# Altium integrated library Infineon_Power_MOSFET.IntLib: 1448 symbols (part 31 of 47)
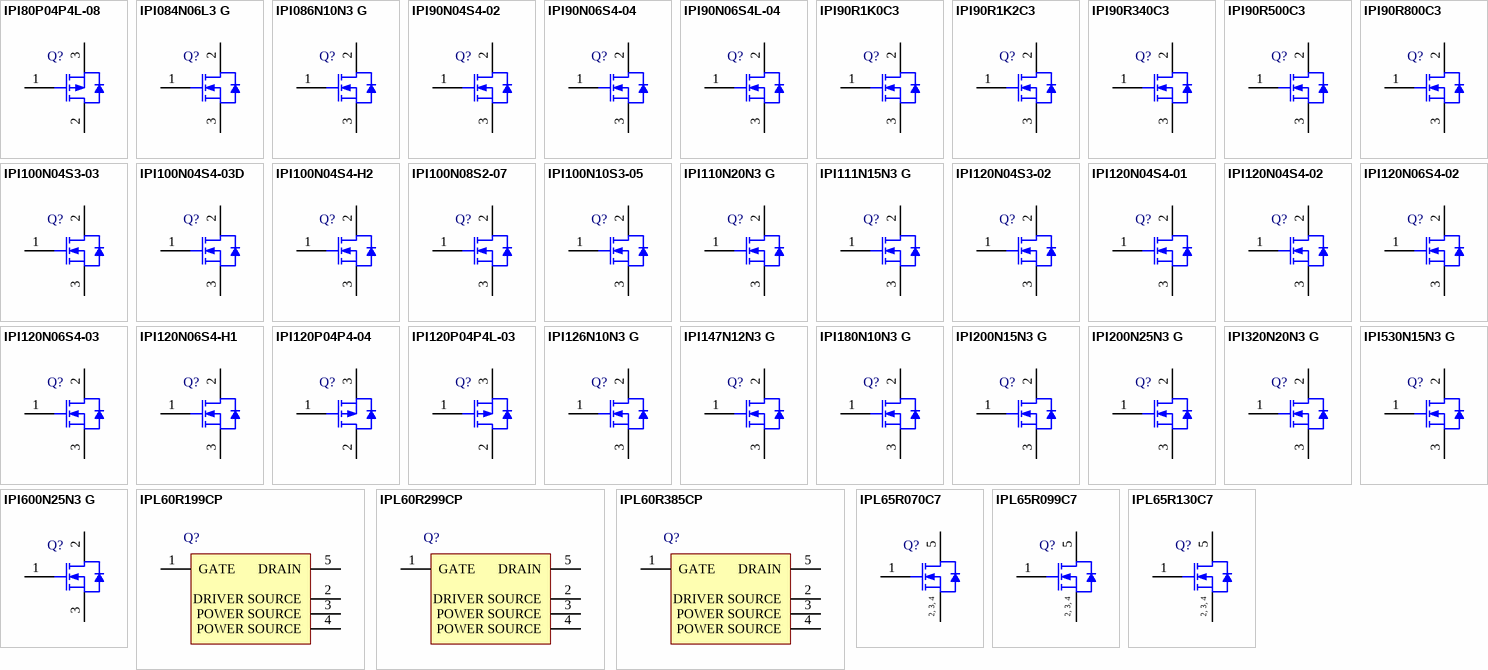
[diagram p67: symbols IPI80P04P4L-08 to IPL65R130C7]

## IPI084N06L3 G
designator Q?
N-Channel OptiMOS 3 Power-Transistor, 60 V VDS, 50 A ID, -55 to 175 degC, PG-TO262-3-1, Tube, Green; Manufacturer: Infineon; PartNumber: IPI084N06L3 G; Green: TRUE; ID (max): 50 A; IDpuls (max): 200 A; Polarity: N; Ptot (max): 79 W; QG: 22 nC; RDS (on) (max): 8.4 mOhm; RDS (on) (max) (@4.5V): 14.3 mOhm; Rth: 1.9 K/W; RthJA (max): 62 K/W; VDS (max): 60 V; VGS(th) (max): 2.2 V; VGS(th) (min): 1.2 V; DatasheetVersion: Rev. 2.24; PackageVersion: Rev. 03, 05/2006; PackageReference: PG-TO262-3-1; PackageDescription: 3-Pin Plastic (Green) Transistor Single Outline Package, 10.03 x 8.98 mm Body, 2.54 mm Pitch; Halogen-free: TRUE; Packing: Tube; RthJC (max): 1.9 K/W; Mounting Technology: Through Hole; ComponentLink1Description: Manufacturer URL; ComponentLink1URL: http://www.infineon.com/; ComponentLink2Description: Datasheet; ComponentLink2URL: http://www.infineon.com/dgdl/IPP_B_I_084N06L3_Rev2.24.pdf?folderId=db3a304313b8b5a60113cee8763b02d7&fileId=db3a30433ba77ced013bade4048934ce; ComponentLink3Description: Package Specification; ComponentLink3URL: http://www.infineon.com/dgdl/DS_IPX65R420CFD_2_4.pdf?folderId=db3a3043156fd5730115c736bcc70ff2&fileId=db3a30432f91014f012f9c293f1a7399
footprint INF-PG-TO262-3-1_A (FM, 3-Leads, Body 10.03x4.436mm, Pitch 2.54mm)
pins: 1 GATE, 2 DRAIN, 3 SOURCE

## IPI086N10N3 G
designator Q?
N-Channel OptiMOS 3 Power-Transistor, 100 V VDS, 80 A ID, -55 to 175 degC, PG-TO262-3-1, Tube, Green; Manufacturer: Infineon; PartNumber: IPI086N10N3 G; Green: TRUE; ID (max): 80 A; IDpuls (max): 320 A; Polarity: N; Ptot (max): 125 W; QG: 42 nC; RDS (on) (max): 8.6 mOhm; Rth: 1.2 K/W; RthJA (max): 62 K/W; VDS (max): 100 V; VGS(th) (max): 3.5 V; VGS(th) (min): 2 V; DatasheetVersion: Rev. 2.5; PackageVersion: Rev. 03, 05/2006; PackageReference: PG-TO262-3-1; PackageDescription: 3-Pin Plastic (Green) Transistor Single Outline Package, 10.03 x 8.98 mm Body, 2.54 mm Pitch; Supplier 1: Mouser; Supplier Part Number 1: 726-IPI086N10N3G; Supplier 2: Digi-Key; Supplier Part Number 2: IPI086N10N3 G-ND; Halogen-free: TRUE; Packing: Tube; RthJC (max): 1.2 K/W; Mounting Technology: Through Hole; ComponentLink1Description: Manufacturer URL; ComponentLink1URL: http://www.infineon.com/; ComponentLink2Description: Datasheet; ComponentLink2URL: http://www.infineon.com/dgdl/IPP086N10N3+G_Rev2.5.pdf?folderId=db3a304313b8b5a60113cee8763b02d7&fileId=db3a30431ce5fb52011d1ac5c8fa1358; ComponentLink3Description: Package Specification; ComponentLink3URL: http://www.infineon.com/dgdl/DS_IPX65R420CFD_2_4.pdf?folderId=db3a3043156fd5730115c736bcc70ff2&fileId=db3a30432f91014f012f9c293f1a7399
footprint INF-PG-TO262-3-1_A (FM, 3-Leads, Body 10.03x4.436mm, Pitch 2.54mm)
pins: 1 GATE, 2 DRAIN, 3 SOURCE

## IPI90N04S4-02
designator Q?
OptiMOS-T2 Power-Transistor, 40 V VDS, 90 A ID, PG-TO262-3-1, Tube, Green; Manufacturer: Infineon; PartNumber: IPI90N04S4-02; Green: TRUE; ID (max): 90 A; IDpuls (max): 360 A; Ptot (max): 150 W; QG: 91 nC; RDS (on) (max) (@10V): 2.5 mOhm; RthJC (max): 1 K/W; VDS (max): 40 V; VGS(th) (max): 4 V; VGS(th) (min): 2 V; DatasheetVersion: Rev. 1.1; PackageReference: PG-TO262-3-1; PackageDescription: 3-Pin Plastic (Green) Transistor Single Outline Package, 10 x 9.25 mm Body, 2.54 mm Pitch; Supplier 1: Mouser; Supplier Part Number 1: 726-IPI90N04S4-02; Supplier 2: Digi-Key; Supplier Part Number 2: IPI90N04S4-02-ND; Halogen-free: TRUE; Packing: Tube; Technology: OptiMOS-T2; Mounting Technology: Through Hole; ComponentLink1Description: Manufacturer URL; ComponentLink1URL: http://www.infineon.com/; ComponentLink2Description: Datasheet; ComponentLink2URL: http://www.infineon.com/dgdl/IPP-B-I90N04S4-02-1_1.pdf?folderId=db3a304412b407950112b42b75b74520&fileId=db3a304328c6bd5c01291c7efe515e2f&location=en.Products.Automotive_ICs.Automotive_MOSFETs.Single__N-Channel_40V_MOSFETs.DATASHEET.IPP-B-I90N04S4-02-1_1.pdf; ComponentLink3Description: Package Specification; ComponentLink3URL: http://www.infineon.com/cms/packages/Leaded_and_through-hole/P-PG-TO262/P-PG-TO262-3-1.html?__locale=en
footprint INF-PG-TO262-3-1 (FM, 3-Leads, Body 10x4.4mm, Pitch 2.54mm)
pins: 1 GATE, 2 DRAIN, 3 SOURCE

## IPI90N06S4-04
designator Q?
OptiMOS-T2 Power-Transistor, 60 V VDS, 90 A ID, PG-TO262-3-1, Tube, Green; Manufacturer: Infineon; PartNumber: IPI90N06S4-04; Green: TRUE; ID (max): 90 A; IDpuls (max): 360 A; Ptot (max): 150 W; QG: 99 nC; RDS (on) (max) (@10V): 4 mOhm; RthJC (max): 1 K/W; VDS (max): 60 V; VGS(th) (max): 4 V; VGS(th) (min): 2 V; DatasheetVersion: Rev. 1.2; PackageReference: PG-TO262-3-1; PackageDescription: 3-Pin Plastic (Green) Transistor Single Outline Package, 10 x 9.25 mm Body, 2.54 mm Pitch; Supplier 1: Mouser; Supplier Part Number 1: 726-IPI90N06S4-04; Supplier 2: Digi-Key; Supplier Part Number 2: IPI90N06S4-04-ND; Halogen-free: TRUE; Packing: Tube; Technology: OptiMOS-T2; Mounting Technology: Through Hole; ComponentLink1Description: Manufacturer URL; ComponentLink1URL: http://www.infineon.com/; ComponentLink2Description: Datasheet; ComponentLink2URL: http://www.infineon.com/dgdl/IPP_B_I90N06S4-04_DS_12.pdf?folderId=db3a30431a5c32f2011a8084a04a6500&fileId=db3a30431ff98815012038cce6020cda&location=en.Products.Automotive_ICs.Automotive_MOSFETs.Single__N-Channel_60V_MOSFETs.DATASHEET.IPP_B_I90N06S4-04_DS_12.pdf; ComponentLink3Description: Package Specification; ComponentLink3URL: http://www.infineon.com/cms/packages/Leaded_and_through-hole/P-PG-TO262/P-PG-TO262-3-1.html?__locale=en
footprint INF-PG-TO262-3-1 (FM, 3-Leads, Body 10x4.4mm, Pitch 2.54mm)
pins: 1 GATE, 2 DRAIN, 3 SOURCE

## IPI90N06S4L-04
designator Q?
OptiMOS-T2 Power-Transistor, 60 V VDS, 90 A ID, PG-TO262-3-1, Tube, Green; Manufacturer: Infineon; PartNumber: IPI90N06S4L-04; Green: TRUE; ID (max): 90 A; IDpuls (max): 360 A; Ptot (max): 150 W; QG: 133 nC; RDS (on) (max) (@10V): 3.7 mOhm; RDS (on) (max) (@4.5V): 5.9 mOhm; RthJC (max): 1 K/W; VDS (max): 60 V; VGS(th) (max): 2.2 V; VGS(th) (min): 1.2 V; DatasheetVersion: Rev. 1.0; PackageReference: PG-TO262-3-1; PackageDescription: 3-Pin Plastic (Green) Transistor Single Outline Package, 10 x 9.25 mm Body, 2.54 mm Pitch; Supplier 1: Mouser; Supplier Part Number 1: 726-IPI90N06S4L-04; Supplier 2: Digi-Key; Supplier Part Number 2: IPI90N06S4L-04-ND; Halogen-free: TRUE; Packing: Tube; Technology: OptiMOS-T2; Mounting Technology: Through Hole; ComponentLink1Description: Manufacturer URL; ComponentLink1URL: http://www.infineon.com/; ComponentLink2Description: Datasheet; ComponentLink2URL: http://www.infineon.com/dgdl/IPP_B_I90N06S4L-04_DS_10.pdf?folderId=db3a30431a5c32f2011a8084a04a6500&fileId=db3a30431ff98815012038d111570ce3&location=en.Products.Automotive_ICs.Automotive_MOSFETs.Single__N-Channel_60V_MOSFETs.DATASHEET.IPP_B_I90N06S4L-04_DS_10.pdf; ComponentLink3Description: Package Specification; ComponentLink3URL: http://www.infineon.com/cms/packages/Leaded_and_through-hole/P-PG-TO262/P-PG-TO262-3-1.html?__locale=en
footprint INF-PG-TO262-3-1 (FM, 3-Leads, Body 10x4.4mm, Pitch 2.54mm)
pins: 1 GATE, 2 DRAIN, 3 SOURCE

## IPI90R1K0C3
designator Q?
N-Channel CoolMOS Power-Transistor, 900 V VDS, 5.7 A ID, -55 to 150 degC, PG-TO262-3-1, Tube, Green; Manufacturer: Infineon; PartNumber: IPI90R1K0C3; Green: TRUE; ID (max): 5.7 A; IDpuls (max): 12 A; Polarity: N; Ptot (max): 89 W; QG: 34 nC; RDS (on) (max): 1,000 mOhm; Rth: 1.4 K/W; RthJA (max): 62 K/W; VDS (max): 900 V; VGS(th) (max): 3.5 V; VGS(th) (min): 2.5 V; DatasheetVersion: Rev. 1.0; PackageReference: PG-TO262-3-1; PackageDescription: 3-Pin Plastic (Green) Transistor Single Outline Package, 10 x 9.25 mm Body, 2.54 mm Pitch; Supplier 1: Mouser; Supplier Part Number 1: 726-IPI90R1K0C3; Supplier 2: Digi-Key; Supplier Part Number 2: IPI90R1K0C3-ND; Halogen-free: TRUE; Packing: Tube; RthJC (max): 1.4 K/W; Technology: CoolMOS C3; Mounting Technology: Through Hole; ComponentLink1Description: Manufacturer URL; ComponentLink1URL: http://www.infineon.com/; ComponentLink2Description: Datasheet; ComponentLink2URL: http://www.infineon.com/dgdl/IPI90R1K0C3_1%5B1%5D.0.pdf?folderId=db3a30432313ff5e0123a8557b1c5ba2&fileId=db3a30432313ff5e0123a85607fe5ba3; ComponentLink3Description: Package Specification; ComponentLink3URL: http://www.infineon.com/cms/packages/Leaded_and_through-hole/P-PG-TO262/P-PG-TO262-3-1.html?__locale=en
footprint INF-PG-TO262-3-1 (FM, 3-Leads, Body 10x4.4mm, Pitch 2.54mm)
pins: 1 GATE, 2 DRAIN, 3 SOURCE

## IPI90R1K2C3
designator Q?
N-Channel CoolMOS Power-Transistor, 900 V VDS, 5.1 A ID, -55 to 150 degC, PG-TO262-3-1, Tube, Green; Manufacturer: Infineon; PartNumber: IPI90R1K2C3; Green: TRUE; ID (max): 5.1 A; IDpuls (max): 10 A; Ptot (max): 83 W; QG: 28 nC; RDS (on) (max): 1,200 mOhm; Rth: 1.5 K/W; RthJA (max): 62 K/W; VDS (max): 900 V; VGS(th) (max): 3.5 V; VGS(th) (min): 2.5 V; DatasheetVersion: Rev. 1.0; PackageReference: PG-TO262-3-1; PackageDescription: 3-Pin Plastic (Green) Transistor Single Outline Package, 10 x 9.25 mm Body, 2.54 mm Pitch; Supplier 1: Mouser; Supplier Part Number 1: 726-IPI90R1K2C3; Supplier 2: Digi-Key; Supplier Part Number 2: IPI90R1K2C3-ND; Halogen-free: TRUE; Packing: Tube; RthJC (max): 1.5 K/W; Technology: CoolMOS C3; Mounting Technology: Through Hole; ComponentLink1Description: Manufacturer URL; ComponentLink1URL: http://www.infineon.com/; ComponentLink2Description: Datasheet; ComponentLink2URL: http://www.infineon.com/dgdl/IPI90R1K2C3_1%5B1%5D.0.pdf?folderId=db3a30432313ff5e0123a8557b1c5ba2&fileId=db3a30432313ff5e0123a85db6ae5bb3; ComponentLink3Description: Package Specification; ComponentLink3URL: http://www.infineon.com/cms/packages/Leaded_and_through-hole/P-PG-TO262/P-PG-TO262-3-1.html?__locale=en
footprint INF-PG-TO262-3-1 (FM, 3-Leads, Body 10x4.4mm, Pitch 2.54mm)
pins: 1 GATE, 2 DRAIN, 3 SOURCE

## IPI90R340C3
designator Q?
N-Channel CoolMOS Power-Transistor, 900 V VDS, 15 A ID, -55 to 150 degC, PG-TO262-3-1, Tube, Green; Manufacturer: Infineon; PartNumber: IPI90R340C3; Green: TRUE; ID (max): 15 A; IDpuls (max): 34 A; Polarity: N; Ptot (max): 208 W; QG: 94 nC; RDS (on) (max): 340 mOhm; Rth: 0.6 K/W; RthJA (max): 62 K/W; VDS (max): 900 V; VGS(th) (max): 3.5 V; VGS(th) (min): 2.5 V; DatasheetVersion: Rev. 1.1; PackageReference: PG-TO262-3-1; PackageDescription: 3-Pin Plastic (Green) Transistor Single Outline Package, 10 x 9.25 mm Body, 2.54 mm Pitch; Supplier 1: Mouser; Supplier Part Number 1: 726-IPI90R340C3; Supplier 2: Farnell; Supplier Part Number 2: 1664047; Supplier 3: Digi-Key; Supplier Part Number 3: IPI90R340C3-ND; Halogen-free: TRUE; Packing: Tube; RthJC (max): 0.6 K/W; Technology: CoolMOS C3; Mounting Technology: Through Hole; ComponentLink1Description: Manufacturer URL; ComponentLink1URL: http://www.infineon.com/; ComponentLink2Description: Datasheet; ComponentLink2URL: http://www.infineon.com/dgdl/IPI90R340C3_1.1.pdf?folderId=db3a30432313ff5e0123a8557b1c5ba2&fileId=db3a30432313ff5e0123a87d86565bc3; ComponentLink3Description: Package Specification; ComponentLink3URL: http://www.infineon.com/cms/packages/Leaded_and_through-hole/P-PG-TO262/P-PG-TO262-3-1.html?__locale=en
footprint INF-PG-TO262-3-1 (FM, 3-Leads, Body 10x4.4mm, Pitch 2.54mm)
pins: 1 GATE, 2 DRAIN, 3 SOURCE

## IPI90R500C3
designator Q?
N-Channel CoolMOS Power-Transistor, 900 V VDS, 11 A ID, -55 to 150 degC, PG-TO262-3-1, Tube, Green; Manufacturer: Infineon; PartNumber: IPI90R500C3; Green: TRUE; ID (max): 11 A; IDpuls (max): 24 A; Polarity: N; Ptot (max): 156 W; QG: 68 nC; RDS (on) (max): 500 mOhm; Rth: 0.8 K/W; RthJA (max): 62 K/W; VDS (max): 900 V; VGS(th) (max): 3.5 V; VGS(th) (min): 2.5 V; DatasheetVersion: Rev. 1.0; PackageReference: PG-TO262-3-1; PackageDescription: 3-Pin Plastic (Green) Transistor Single Outline Package, 10 x 9.25 mm Body, 2.54 mm Pitch; Supplier 1: Mouser; Supplier Part Number 1: 726-IPI90R500C3; Supplier 2: Farnell; Supplier Part Number 2: 1664048; Supplier 3: Digi-Key; Supplier Part Number 3: IPI90R500C3-ND; Halogen-free: TRUE; Packing: Tube; RthJC (max): 0.8 K/W; Technology: CoolMOS C3; Mounting Technology: Through Hole; ComponentLink1Description: Manufacturer URL; ComponentLink1URL: http://www.infineon.com/; ComponentLink2Description: Datasheet; ComponentLink2URL: http://www.infineon.com/dgdl/IPI90R500C3_1%5B1%5D.0.pdf?folderId=db3a30432313ff5e0123a8557b1c5ba2&fileId=db3a30432313ff5e0123a88242955bd3; ComponentLink3Description: Package Specification; ComponentLink3URL: http://www.infineon.com/cms/packages/Leaded_and_through-hole/P-PG-TO262/P-PG-TO262-3-1.html?__locale=en
footprint INF-PG-TO262-3-1 (FM, 3-Leads, Body 10x4.4mm, Pitch 2.54mm)
pins: 1 GATE, 2 DRAIN, 3 SOURCE

## IPI90R800C3
designator Q?
N-Channel CoolMOS Power-Transistor, 900 V VDS, 6.9 A ID, -55 to 150 degC, PG-TO262-3-1, Tube, Green; Manufacturer: Infineon; PartNumber: IPI90R800C3; Green: TRUE; ID (max): 6.9 A; IDpuls (max): 15 A; Polarity: N; Ptot (max): 104 W; QG: 42 nC; RDS (on) (max): 800 mOhm; Rth: 1.2 K/W; RthJA (max): 62 K/W; VDS (max): 900 V; VGS(th) (max): 3.5 V; VGS(th) (min): 2.5 V; DatasheetVersion: Rev. 1.0; PackageReference: PG-TO262-3-1; PackageDescription: 3-Pin Plastic (Green) Transistor Single Outline Package, 10 x 9.25 mm Body, 2.54 mm Pitch; Supplier 1: Mouser; Supplier Part Number 1: 726-IPI90R800C3; Supplier 2: Digi-Key; Supplier Part Number 2: IPI90R800C3-ND; Halogen-free: TRUE; Packing: Tube; RthJC (max): 1.2 K/W; Technology: CoolMOS C3; Mounting Technology: Through Hole; ComponentLink1Description: Manufacturer URL; ComponentLink1URL: http://www.infineon.com/; ComponentLink2Description: Datasheet; ComponentLink2URL: http://www.infineon.com/dgdl/IPI90R800C3_1%5B1%5D.0.pdf?folderId=db3a30432313ff5e0123a8557b1c5ba2&fileId=db3a30432313ff5e0123a887f69e5be4; ComponentLink3Description: Package Specification; ComponentLink3URL: http://www.infineon.com/cms/packages/Leaded_and_through-hole/P-PG-TO262/P-PG-TO262-3-1.html?__locale=en
footprint INF-PG-TO262-3-1 (FM, 3-Leads, Body 10x4.4mm, Pitch 2.54mm)
pins: 1 GATE, 2 DRAIN, 3 SOURCE

## IPI100N04S3-03
designator Q?
OptiMOS-T Power-Transistor, 40 V VDS, 100 A ID, PG-TO262-3-1, Tube, Green; Manufacturer: Infineon; PartNumber: IPI100N04S3-03; Green: TRUE; ID (max): 100 A; IDpuls (max): 400 A; Ptot (max): 214 W; QG: 110 nC; RDS (on) (max) (@10V): 2.8 mOhm; RthJC (max): 0.7 K/W; VDS (max): 40 V; VGS(th) (max): 4 V; VGS(th) (min): 2.1 V; DatasheetVersion: Rev. 1.0; PackageReference: PG-TO262-3-1; PackageDescription: 3-Pin Plastic (Green) Transistor Single Outline Package, 10 x 9.25 mm Body, 2.54 mm Pitch; Supplier 1: Mouser; Supplier Part Number 1: 726-IPI100N04S3-03; Supplier 2: Digi-Key; Supplier Part Number 2: IPI100N04S3-03-ND; Halogen-free: TRUE; Packing: Tube; Technology: OptiMOS-T; Mounting Technology: Through Hole; ComponentLink1Description: Manufacturer URL; ComponentLink1URL: http://www.infineon.com/; ComponentLink2Description: Datasheet; ComponentLink2URL: http://www.infineon.com/dgdl/IPP_B_I100N04S3-03_DS_1_0.pdf?folderId=db3a304412b407950112b42b75b74520&fileId=db3a304412b407950112b42ba0e8457f&location=en.Products.Automotive_ICs.Automotive_MOSFETs.Single__N-Channel_40V_MOSFETs.DATASHEET.IPP_B_I100N04S3-03_DS_1_0.pdf; ComponentLink3Description: Package Specification; ComponentLink3URL: http://www.infineon.com/cms/packages/Leaded_and_through-hole/P-PG-TO262/P-PG-TO262-3-1.html?__locale=en
footprint INF-PG-TO262-3-1 (FM, 3-Leads, Body 10x4.4mm, Pitch 2.54mm)
pins: 1 GATE, 2 DRAIN, 3 SOURCE

## IPI100N04S4-03D
designator Q?
OptiMOS-T2 Power-Transistor, 40 V VDS, 100 A ID, PG-TO262-3-1, Tube, Green; Manufacturer: Infineon; PartNumber: IPI100N04S4-03D; Green: TRUE; ID (max): 100 A; IDpuls (max): 400 A; Ptot (max): 231 mW; QG: 69 nC; RDS (on) (max) (@10V): 2.5 mOhm; RthJC (max): 0.65 K/W; VDS (max): 40 V; VGS(th) (max): 4 V; VGS(th) (min): 2 V; DatasheetVersion: Rev. 1.0; PackageReference: PG-TO262-3-1; PackageDescription: 3-Pin Plastic (Green) Transistor Single Outline Package, 10 x 9.25 mm Body, 2.54 mm Pitch; Halogen-free: TRUE; Packing: Tube; Technology: OptiMOS-T2; Mounting Technology: Through Hole; ComponentLink1Description: Manufacturer URL; ComponentLink1URL: http://www.infineon.com/; ComponentLink2Description: Datasheet; ComponentLink2URL: http://www.infineon.com/dgdl/IPP_B_I100N04S4-03D_DS_1_0.pdf?folderId=db3a304412b407950112b42b75b74520&fileId=db3a304333227b5e0133266164b72ef7&location=en.Products.Automotive_ICs.Automotive_MOSFETs.Single__N-Channel_40V_MOSFETs.DATASHEET.IPP_B_I100N04S4-03D_DS_1_0.pdf; ComponentLink3Description: Package Specification; ComponentLink3URL: http://www.infineon.com/cms/packages/Leaded_and_through-hole/P-PG-TO262/P-PG-TO262-3-1.html?__locale=en
footprint INF-PG-TO262-3-1 (FM, 3-Leads, Body 10x4.4mm, Pitch 2.54mm)
pins: 1 GATE, 2 DRAIN, 3 SOURCE

## IPI100N04S4-H2
designator Q?
OptiMOS-T2 Power-Transistor, 40 V VDS, 100 A ID, PG-TO262-3-1, Tube, Green; Manufacturer: Infineon; PartNumber: IPI100N04S4-H2; Green: TRUE; ID (max): 100 A; IDpuls (max): 400 A; Ptot (max): 115 W; QG: 70 nC; RDS (on) (max) (@10V): 2.7 mOhm; RthJC (max): 1.3 K/W; VDS (max): 40 V; VGS(th) (max): 4 V; VGS(th) (min): 2 V; DatasheetVersion: Rev. 1.0; PackageReference: PG-TO262-3-1; PackageDescription: 3-Pin Plastic (Green) Transistor Single Outline Package, 10 x 9.25 mm Body, 2.54 mm Pitch; Supplier 1: Mouser; Supplier Part Number 1: 726-IPI100N04S4-H2; Supplier 2: Digi-Key; Supplier Part Number 2: IPI100N04S4-H2-ND; Halogen-free: TRUE; Packing: Tube; Technology: OptiMOS-T2; Mounting Technology: Through Hole; ComponentLink1Description: Manufacturer URL; ComponentLink1URL: http://www.infineon.com/; ComponentLink2Description: Datasheet; ComponentLink2URL: http://www.infineon.com/dgdl/IPP_B_I100N04S4-H2_DS_10.pdf?folderId=db3a304412b407950112b42b75b74520&fileId=db3a304328c6bd5c01291c2758925d17&location=en.Products.Automotive_ICs.Automotive_MOSFETs.Single__N-Channel_40V_MOSFETs.DATASHEET.IPP_B_I100N04S4-H2_DS_10.pdf; ComponentLink3Description: Package Specification; ComponentLink3URL: http://www.infineon.com/cms/packages/Leaded_and_through-hole/P-PG-TO262/P-PG-TO262-3-1.html?__locale=en
footprint INF-PG-TO262-3-1 (FM, 3-Leads, Body 10x4.4mm, Pitch 2.54mm)
pins: 1 GATE, 2 DRAIN, 3 SOURCE

## IPI100N08S2-07
designator Q?
OptiMOS Power-Transistor, 75 V VDS, 100 A ID, PG-TO262-3-1, Tube, Green; Manufacturer: Infineon; PartNumber: IPI100N08S2-07; Green: TRUE; ID (max): 100 A; IDpuls (max): 400 A; Ptot (max): 300 W; QG: 144 nC; RDS (on) (max) (@10V): 7.1 mOhm; RthJC (max): 0.5 K/W; VDS (max): 75 V; VGS(th) (max): 4 V; VGS(th) (min): 2.1 V; DatasheetVersion: Rev. 1.0; PackageReference: PG-TO262-3-1; PackageDescription: 3-Pin Plastic (Green) Transistor Single Outline Package, 10 x 9.25 mm Body, 2.54 mm Pitch; Supplier 1: Mouser; Supplier Part Number 1: 726-IPI100N08S207; Supplier 2: Digi-Key; Supplier Part Number 2: IPI100N08S2-07-ND; Halogen-free: TRUE; Packing: Tube; Technology: OptiMOS; Mounting Technology: Through Hole; ComponentLink1Description: Manufacturer URL; ComponentLink1URL: http://www.infineon.com/; ComponentLink2Description: Datasheet; ComponentLink2URL: http://www.infineon.com/dgdl/IPP_B_I100N08S2-07_green.pdf?folderId=db3a304412b407950112b408e8c90004&fileId=db3a304412b407950112b426e4463ae7&location=en.Products.Automotive_ICs.Automotive_MOSFETs.Single__N-Channel_75V_MOSFETs.DATASHEET.IPP_B_I100N08S2-07_green.pdf; ComponentLink3Description: Package Specification; ComponentLink3URL: http://www.infineon.com/cms/packages/Leaded_and_through-hole/P-PG-TO262/P-PG-TO262-3-1.html?__locale=en
footprint INF-PG-TO262-3-1 (FM, 3-Leads, Body 10x4.4mm, Pitch 2.54mm)
pins: 1 GATE, 2 DRAIN, 3 SOURCE

## IPI100N10S3-05
designator Q?
OptiMOS-T Power-Transistor, 100 V VDS, 100 A ID, PG-TO262-3-1, Tube, Green; Manufacturer: Infineon; PartNumber: IPI100N10S3-05; Green: TRUE; ID (max): 100 A; IDpuls (max): 400 A; Ptot (max): 300 W; QG: 135 nC; RDS (on) (max) (@10V): 5.1 mOhm; RthJC (max): 0.5 K/W; VDS (max): 100 V; VGS(th) (max): 4 V; VGS(th) (min): 2 V; DatasheetVersion: Rev. 1.0; PackageReference: PG-TO262-3-1; PackageDescription: 3-Pin Plastic (Green) Transistor Single Outline Package, 10 x 9.25 mm Body, 2.54 mm Pitch; Supplier 1: Mouser; Supplier Part Number 1: 726-IPI100N10S305; Supplier 2: Digi-Key; Supplier Part Number 2: IPI100N10S3-05-ND; Halogen-free: TRUE; Packing: Tube; Technology: OptiMOS-T; Mounting Technology: Through Hole; ComponentLink1Description: Manufacturer URL; ComponentLink1URL: http://www.infineon.com/; ComponentLink2Description: Datasheet; ComponentLink2URL: http://www.infineon.com/dgdl/IPP_B_I100N10S3-05_neu.pdf?folderId=db3a3043156fd5730115c7d50620107c&fileId=db3a30431a5c32f2011a908bd4d8595c&location=en.Products.Automotive_ICs.Automotive_MOSFETs.Single__N-Channel_100V_MOSFETs.DATASHEET.IPP_B_I100N10S3-05_neu.pdf; ComponentLink3Description: Package Specification; ComponentLink3URL: http://www.infineon.com/cms/packages/Leaded_and_through-hole/P-PG-TO262/P-PG-TO262-3-1.html?__locale=en
footprint INF-PG-TO262-3-1 (FM, 3-Leads, Body 10x4.4mm, Pitch 2.54mm)
pins: 1 GATE, 2 DRAIN, 3 SOURCE

## IPI110N20N3 G
designator Q?
N-Channel OptiMOS 3 Power-Transistor, 200 V VDS, 88 A ID, -55 to 175 degC, PG-TO262-3-1, Tube, Green; Manufacturer: Infineon; PartNumber: IPI110N20N3 G; Green: TRUE; ID (max): 88 A; IDpuls (max): 352 A; Polarity: N; Ptot (max): 300 W; QG: 65 nC; RDS (on) (max): 11 mOhm; Rth: 0.5 K/W; RthJA (max): 62 K/W; VDS (max): 200 V; VGS(th) (max): 4 V; VGS(th) (min): 2 V; DatasheetVersion: Rev. 2.3; PackageVersion: Rev. 03, 05/2006; PackageReference: PG-TO262-3-1; PackageDescription: 3-Pin Plastic (Green) Transistor Single Outline Package, 10.03 x 8.98 mm Body, 2.54 mm Pitch; Supplier 1: Mouser; Supplier Part Number 1: 726-IPI110N20N3G; Supplier 2: Digi-Key; Supplier Part Number 2: IPI110N20N3 G-ND; Halogen-free: TRUE; Packing: Tube; RthJC (max): 0.5 K/W; Mounting Technology: Through Hole; ComponentLink1Description: Manufacturer URL; ComponentLink1URL: http://www.infineon.com/; ComponentLink2Description: Datasheet; ComponentLink2URL: http://www.infineon.com/dgdl/IPP_I_110N20N3+G_IPB107N20N3+G+Rev2.3.pdf?folderId=db3a3043163797a6011637d4bae7003b&fileId=db3a3043243b5f170124968e7d1f18e7; ComponentLink3Description: Package Specification; ComponentLink3URL: http://www.infineon.com/dgdl/DS_IPX65R420CFD_2_4.pdf?folderId=db3a3043156fd5730115c736bcc70ff2&fileId=db3a30432f91014f012f9c293f1a7399
footprint INF-PG-TO262-3-1_A (FM, 3-Leads, Body 10.03x4.436mm, Pitch 2.54mm)
pins: 1 GATE, 2 DRAIN, 3 SOURCE

## IPI111N15N3 G
designator Q?
N-Channel OptiMOS 3 Power-Transistor, 150 V VDS, 83 A ID, -55 to 175 degC, PG-TO262-3-1, Tube, Green; Manufacturer: Infineon; PartNumber: IPI111N15N3 G; Green: TRUE; ID (max): 83 A; IDpuls (max): 332 A; Polarity: N; Ptot (max): 214 W; QG: 41 nC; RDS (on) (max): 11.1 mOhm; Rth: 0.7 K/W; RthJA (max): 62 K/W; VDS (max): 150 V; VGS(th) (max): 4 V; VGS(th) (min): 2 V; DatasheetVersion: Rev. 2.1; PackageVersion: Rev. 03, 05/2006; PackageReference: PG-TO262-3-1; PackageDescription: 3-Pin Plastic (Green) Transistor Single Outline Package, 10.03 x 8.98 mm Body, 2.54 mm Pitch; Supplier 1: Digi-Key; Supplier Part Number 1: IPI111N15N3 G-ND; Halogen-free: TRUE; Packing: Tube; RthJC (max): 0.7 K/W; Mounting Technology: Through Hole; ComponentLink1Description: Manufacturer URL; ComponentLink1URL: http://www.infineon.com/; ComponentLink2Description: Datasheet; ComponentLink2URL: http://www.infineon.com/dgdl/IPP_I111N15N3+G_IPB108N15N3+G_Rev2.1.pdf?folderId=db3a304325305e6d01254a567c041b4e&fileId=db3a304325305e6d01254a5795541b4f; ComponentLink3Description: Package Specification; ComponentLink3URL: http://www.infineon.com/dgdl/DS_IPX65R420CFD_2_4.pdf?folderId=db3a3043156fd5730115c736bcc70ff2&fileId=db3a30432f91014f012f9c293f1a7399
footprint INF-PG-TO262-3-1_A (FM, 3-Leads, Body 10.03x4.436mm, Pitch 2.54mm)
pins: 1 GATE, 2 DRAIN, 3 SOURCE

## IPI120N04S3-02
designator Q?
OptiMOS-T Power-Transistor, 40 V VDS, 120 A ID, PG-TO262-3-1, Tube, Green; Manufacturer: Infineon; PartNumber: IPI120N04S3-02; Green: TRUE; ID (max): 120 A; IDpuls (max): 480 A; Ptot (max): 300 W; QG: 160 nC; RDS (on) (max) (@10V): 2.3 mOhm; RthJC (max): 0.5 K/W; VDS (max): 40 V; VGS(th) (max): 4 V; VGS(th) (min): 2.1 V; DatasheetVersion: Rev. 1.0; PackageReference: PG-TO262-3-1; PackageDescription: 3-Pin Plastic (Green) Transistor Single Outline Package, 10 x 9.25 mm Body, 2.54 mm Pitch; Supplier 1: Mouser; Supplier Part Number 1: 726-IPI120N04S3-02; Supplier 2: Digi-Key; Supplier Part Number 2: IPI120N04S3-02-ND; Halogen-free: TRUE; Packing: Tube; Technology: OptiMOS-T; Mounting Technology: Through Hole; ComponentLink1Description: Manufacturer URL; ComponentLink1URL: http://www.infineon.com/; ComponentLink2Description: Datasheet; ComponentLink2URL: http://www.infineon.com/dgdl/IPP_B_I120N04S3-02_DS_1_0.pdf?folderId=db3a304412b407950112b42b75b74520&fileId=db3a304412b407950112b42ba1cd4583&location=en.Products.Automotive_ICs.Automotive_MOSFETs.Single__N-Channel_40V_MOSFETs.DATASHEET.IPP_B_I120N04S3-02_DS_1_0.pdf; ComponentLink3Description: Package Specification; ComponentLink3URL: http://www.infineon.com/cms/packages/Leaded_and_through-hole/P-PG-TO262/P-PG-TO262-3-1.html?__locale=en
footprint INF-PG-TO262-3-1 (FM, 3-Leads, Body 10x4.4mm, Pitch 2.54mm)
pins: 1 GATE, 2 DRAIN, 3 SOURCE

## IPI120N04S4-01
designator Q?
OptiMOS-T2 Power-Transistor, 40 V VDS, 120 A ID, PG-TO262-3-1, Tube, Green; Manufacturer: Infineon; PartNumber: IPI120N04S4-01; Green: TRUE; ID (max): 120 A; IDpuls (max): 480 A; Ptot (max): 188 W; QG: 135 nC; RDS (on) (max) (@10V): 1.9 mOhm; RthJC (max): 0.8 K/W; VDS (max): 40 V; VGS(th) (max): 4 V; VGS(th) (min): 2 V; DatasheetVersion: Rev. 1.0; PackageReference: PG-TO262-3-1; PackageDescription: 3-Pin Plastic (Green) Transistor Single Outline Package, 10 x 9.25 mm Body, 2.54 mm Pitch; Supplier 1: Mouser; Supplier Part Number 1: 726-IPI120N04S4-01; Supplier 2: Digi-Key; Supplier Part Number 2: IPI120N04S4-01-ND; Halogen-free: TRUE; Packing: Tube; Technology: OptiMOS-T2; Mounting Technology: Through Hole; ComponentLink1Description: Manufacturer URL; ComponentLink1URL: http://www.infineon.com/; ComponentLink2Description: Datasheet; ComponentLink2URL: http://www.infineon.com/dgdl/IPP_B_I120N04S4-01_DS_1_0.pdf?folderId=db3a304412b407950112b42b75b74520&fileId=db3a304328c6bd5c01291c2ebd3b5d27&location=en.Products.Automotive_ICs.Automotive_MOSFETs.Single__N-Channel_40V_MOSFETs.DATASHEET.IPP_B_I120N04S4-01_DS_1_0.pdf; ComponentLink3Description: Package Specification; ComponentLink3URL: http://www.infineon.com/cms/packages/Leaded_and_through-hole/P-PG-TO262/P-PG-TO262-3-1.html?__locale=en
footprint INF-PG-TO262-3-1 (FM, 3-Leads, Body 10x4.4mm, Pitch 2.54mm)
pins: 1 GATE, 2 DRAIN, 3 SOURCE

## IPI120N04S4-02
designator Q?
OptiMOS-T2 Power-Transistor, 40 V VDS, 120 A ID, PG-TO262-3-1, Tube, Green; Manufacturer: Infineon; PartNumber: IPI120N04S4-02; Green: TRUE; ID (max): 120 A; IDpuls (max): 480 A; Ptot (max): 158 W; QG: 103 nC; RDS (on) (max) (@10V): 2.1 mOhm; RthJC (max): 0.95 K/W; VDS (max): 40 V; VGS(th) (max): 4 V; VGS(th) (min): 2 V; DatasheetVersion: Rev. 1.0; PackageReference: PG-TO262-3-1; PackageDescription: 3-Pin Plastic (Green) Transistor Single Outline Package, 10 x 9.25 mm Body, 2.54 mm Pitch; Supplier 1: Mouser; Supplier Part Number 1: 726-IPI120N04S4-02; Supplier 2: Digi-Key; Supplier Part Number 2: IPI120N04S4-02-ND; Halogen-free: TRUE; Packing: Tube; Technology: OptiMOS-T2; Mounting Technology: Through Hole; ComponentLink1Description: Manufacturer URL; ComponentLink1URL: http://www.infineon.com/; ComponentLink2Description: Datasheet; ComponentLink2URL: http://www.infineon.com/dgdl/IPP_B_I120N04S4-02_DS_1_0.pdf?folderId=db3a304412b407950112b42b75b74520&fileId=db3a304328c6bd5c01291c33093d5d37&location=en.Products.Automotive_ICs.Automotive_MOSFETs.Single__N-Channel_40V_MOSFETs.DATASHEET.IPP_B_I120N04S4-02_DS_1_0.pdf; ComponentLink3Description: Package Specification; ComponentLink3URL: http://www.infineon.com/cms/packages/Leaded_and_through-hole/P-PG-TO262/P-PG-TO262-3-1.html?__locale=en
footprint INF-PG-TO262-3-1 (FM, 3-Leads, Body 10x4.4mm, Pitch 2.54mm)
pins: 1 GATE, 2 DRAIN, 3 SOURCE

## IPI120N06S4-02
designator Q?
OptiMOS-T2 Power-Transistor, 60 V VDS, 120 A ID, PG-TO262-3-1, Tube, Green; Manufacturer: Infineon; PartNumber: IPI120N06S4-02; Green: TRUE; ID (max): 120 A; IDpuls (max): 480 A; Ptot (max): 188 W; QG: 150 nC; RDS (on) (max) (@10V): 2.8 mOhm; RthJC (max): 0.8 K/W; VDS (max): 60 V; VGS(th) (max): 4 V; VGS(th) (min): 2 V; DatasheetVersion: Rev. 1.2; PackageReference: PG-TO262-3-1; PackageDescription: 3-Pin Plastic (Green) Transistor Single Outline Package, 10 x 9.25 mm Body, 2.54 mm Pitch; Supplier 1: Mouser; Supplier Part Number 1: 726-IPI120N06S4-02; Supplier 2: Digi-Key; Supplier Part Number 2: IPI120N06S4-02-ND; Halogen-free: TRUE; Packing: Tube; Technology: OptiMOS-T2; Mounting Technology: Through Hole; ComponentLink1Description: Manufacturer URL; ComponentLink1URL: http://www.infineon.com/; ComponentLink2Description: Datasheet; ComponentLink2URL: http://www.infineon.com/dgdl/IPP_B_I120N06S4-02_DS_12.pdf?folderId=db3a30431a5c32f2011a8084a04a6500&fileId=db3a30431ff9881501203890b6410cb8&location=en.Products.Automotive_ICs.Automotive_MOSFETs.Single__N-Channel_60V_MOSFETs.DATASHEET.IPP_B_I120N06S4-02_DS_12.pdf; ComponentLink3Description: Package Specification; ComponentLink3URL: http://www.infineon.com/cms/packages/Leaded_and_through-hole/P-PG-TO262/P-PG-TO262-3-1.html?__locale=en
footprint INF-PG-TO262-3-1 (FM, 3-Leads, Body 10x4.4mm, Pitch 2.54mm)
pins: 1 GATE, 2 DRAIN, 3 SOURCE

## IPI120N06S4-03
designator Q?
OptiMOS-T2 Power-Transistor, 60 V VDS, 120 A ID, PG-TO262-3-1, Tube, Green; Manufacturer: Infineon; PartNumber: IPI120N06S4-03; Green: TRUE; ID (max): 120 A; IDpuls (max): 480 A; Ptot (max): 167 W; QG: 125 nC; RDS (on) (max) (@10V): 3.2 mOhm; RthJC (max): 0.9 K/W; VDS (max): 60 V; VGS(th) (max): 4 V; VGS(th) (min): 2 V; DatasheetVersion: Rev. 1.0; PackageReference: PG-TO262-3-1; PackageDescription: 3-Pin Plastic (Green) Transistor Single Outline Package, 10 x 9.25 mm Body, 2.54 mm Pitch; Supplier 1: Mouser; Supplier Part Number 1: 726-IPI120N06S4-03; Supplier 2: Digi-Key; Supplier Part Number 2: IPI120N06S4-03-ND; Halogen-free: TRUE; Packing: Tube; Technology: OptiMOS-T2; Mounting Technology: Through Hole; ComponentLink1Description: Manufacturer URL; ComponentLink1URL: http://www.infineon.com/; ComponentLink2Description: Datasheet; ComponentLink2URL: http://www.infineon.com/dgdl/IPP_B_I120N06S4-03_DS_10.pdf?folderId=db3a30431a5c32f2011a8084a04a6500&fileId=db3a30431ff98815012038c634110ccc&location=en.Products.Automotive_ICs.Automotive_MOSFETs.Single__N-Channel_60V_MOSFETs.DATASHEET.IPP_B_I120N06S4-03_DS_10.pdf; ComponentLink3Description: Package Specification; ComponentLink3URL: http://www.infineon.com/cms/packages/Leaded_and_through-hole/P-PG-TO262/P-PG-TO262-3-1.html?__locale=en
footprint INF-PG-TO262-3-1 (FM, 3-Leads, Body 10x4.4mm, Pitch 2.54mm)
pins: 1 GATE, 2 DRAIN, 3 SOURCE

## IPI120N06S4-H1
designator Q?
OptiMOS Power-Transistor, 60 V VDS, 120 A ID, PG-TO262-3-1, Tube, Green; Manufacturer: Infineon; PartNumber: IPI120N06S4-H1; Green: TRUE; ID (max): 120 A; IDpuls (max): 480 A; Ptot (max): 250 W; QG: 208 nC; RDS (on) (max) (@10V): 2.4 mOhm; RthJC (max): 0.6 K/W; VDS (max): 60 V; VGS(th) (max): 4 V; VGS(th) (min): 2 V; DatasheetVersion: Rev. 1.0; PackageReference: PG-TO262-3-1; PackageDescription: 3-Pin Plastic (Green) Transistor Single Outline Package, 10 x 9.25 mm Body, 2.54 mm Pitch; Supplier 1: Mouser; Supplier Part Number 1: 726-IPI120N06S4-H1; Supplier 2: Digi-Key; Supplier Part Number 2: IPI120N06S4-H1-ND; Halogen-free: TRUE; Packing: Tube; Technology: OptiMOS-T2; Mounting Technology: Through Hole; ComponentLink1Description: Manufacturer URL; ComponentLink1URL: http://www.infineon.com/; ComponentLink2Description: Datasheet; ComponentLink2URL: http://www.infineon.com/dgdl/IPP_B_I120N06S4-H1_DS_10.pdf?folderId=db3a30431a5c32f2011a8084a04a6500&fileId=db3a30431ff988150120388c9cf60caf&location=en.Products.Automotive_ICs.Automotive_MOSFETs.Single__N-Channel_60V_MOSFETs.DATASHEET.IPP_B_I120N06S4-H1_DS_10.pdf; ComponentLink3Description: Package Specification; ComponentLink3URL: http://www.infineon.com/cms/packages/Leaded_and_through-hole/P-PG-TO262/P-PG-TO262-3-1.html?__locale=en
footprint INF-PG-TO262-3-1 (FM, 3-Leads, Body 10x4.4mm, Pitch 2.54mm)
pins: 1 GATE, 2 DRAIN, 3 SOURCE

## IPI120P04P4-04
designator Q?
OptiMOS-P2 Power-Transistor, -40 V VDS, -120 A ID, PG-TO262-3-1, Tube, Green; Manufacturer: Infineon; PartNumber: IPI120P04P4-04; Green: TRUE; ID (max): -120 A; IDpuls (max): -480 A; Ptot (max): 136 W; QG: 158 nC; RDS (on) (max) (@10V): 3.8 mOhm; RthJC (max): 1.1 K/W; VDS (max): -40 V; VGS(th) (max): -4 V; VGS(th) (min): -2 V; DatasheetVersion: Rev. 1.0; PackageReference: PG-TO262-3-1; PackageDescription: 3-Pin Plastic (Green) Transistor Single Outline Package, 10 x 9.25 mm Body, 2.54 mm Pitch; Halogen-free: TRUE; Packing: Tube; Technology: OptiMOS-P2; Mounting Technology: Through Hole; ComponentLink1Description: Manufacturer URL; ComponentLink1URL: http://www.infineon.com/; ComponentLink2Description: Datasheet; ComponentLink2URL: http://www.infineon.com/dgdl/IPP_B_I120P04P4-04_DS10.pdf?folderId=db3a304412b407950112b42b75b74520&fileId=db3a30432f69f146012f784299de2e44&location=en.Products.Automotive_ICs.Automotive_MOSFETs.Single__P-Channel_40V_MOSFETs.DATASHEET.IPP_B_I120P04P4-04_DS10.pdf; ComponentLink3Description: Package Specification; ComponentLink3URL: http://www.infineon.com/cms/packages/Leaded_and_through-hole/P-PG-TO262/P-PG-TO262-3-1.html?__locale=en
footprint INF-PG-TO262-3-1 (FM, 3-Leads, Body 10x4.4mm, Pitch 2.54mm)
pins: 1 GATE, 2 DRAIN, 3 SOURCE

## IPI120P04P4L-03
designator Q?
OptiMOS-P2 Power-Transistor, -40 V VDS, -120 A ID, PG-TO262-3-1, Tube, Green; Manufacturer: Infineon; PartNumber: IPI120P04P4L-03; Green: TRUE; ID (max): -120 A; IDpuls (max): -480 A; Ptot (max): 136 W; QG: 180 nC; RDS (on) (max) (@10V): 3.4 mOhm; RDS (on) (max) (@4.5V): 5.2 mOhm; RthJC (max): 1.1 K/W; VDS (max): -40 V; VGS(th) (max): -2.2 V; VGS(th) (min): -1.2 V; DatasheetVersion: Rev. 1.0; PackageReference: PG-TO262-3-1; PackageDescription: 3-Pin Plastic (Green) Transistor Single Outline Package, 10 x 9.25 mm Body, 2.54 mm Pitch; Supplier 1: Mouser; Supplier Part Number 1: 726-IPI120P04P4L-03; Halogen-free: TRUE; Packing: Tube; Technology: OptiMOS-P2; Mounting Technology: Through Hole; ComponentLink1Description: Manufacturer URL; ComponentLink1URL: http://www.infineon.com/; ComponentLink2Description: Datasheet; ComponentLink2URL: http://www.infineon.com/dgdl/IPP_B_I120P04P4L-03_DS_10.pdf?folderId=db3a304412b407950112b42b75b74520&fileId=db3a30432f69f146012f783b3b5a2e3f&location=en.Products.Automotive_ICs.Automotive_MOSFETs.Single__P-Channel_40V_MOSFETs.DATASHEET.IPP_B_I120P04P4L-03_DS_10.pdf; ComponentLink3Description: Package Specification; ComponentLink3URL: http://www.infineon.com/cms/packages/Leaded_and_through-hole/P-PG-TO262/P-PG-TO262-3-1.html?__locale=en
footprint INF-PG-TO262-3-1 (FM, 3-Leads, Body 10x4.4mm, Pitch 2.54mm)
pins: 1 GATE, 2 DRAIN, 3 SOURCE

## IPI126N10N3 G
designator Q?
N-Channel OptiMOS 3 Power-Transistor, 100 V VDS, 58 A ID, -55 to 175 degC, PG-TO262-3-1, Tube, Green; Manufacturer: Infineon; PartNumber: IPI126N10N3 G; Green: TRUE; ID (max): 58 A; IDpuls (max): 232 A; Polarity: N; Ptot (max): 94 W; QG: 26 nC; RDS (on) (max): 12.6 mOhm; Rth: 1.6 K/W; RthJA (max): 62 K/W; VDS (max): 100 V; VGS(th) (max): 3.5 V; VGS(th) (min): 2 V; DatasheetVersion: Rev. 2.3; PackageVersion: Rev. 03, 05/2006; PackageReference: PG-TO262-3-1; PackageDescription: 3-Pin Plastic (Green) Transistor Single Outline Package, 10.03 x 8.98 mm Body, 2.54 mm Pitch; Supplier 1: Mouser; Supplier Part Number 1: 726-IPI126N10N3G; Supplier 2: Digi-Key; Supplier Part Number 2: IPI126N10N3 G-ND; Halogen-free: TRUE; Packing: Tube; RthJC (max): 1.6 K/W; Mounting Technology: Through Hole; ComponentLink1Description: Manufacturer URL; ComponentLink1URL: http://www.infineon.com/; ComponentLink2Description: Datasheet; ComponentLink2URL: http://www.infineon.com/dgdl/IPP126N10N3+G_Rev2.3.pdf?folderId=db3a304313b8b5a60113cee8763b02d7&fileId=db3a30432239cccd012260508e027f74; ComponentLink3Description: Package Specification; ComponentLink3URL: http://www.infineon.com/dgdl/DS_IPX65R420CFD_2_4.pdf?folderId=db3a3043156fd5730115c736bcc70ff2&fileId=db3a30432f91014f012f9c293f1a7399
footprint INF-PG-TO262-3-1_A (FM, 3-Leads, Body 10.03x4.436mm, Pitch 2.54mm)
pins: 1 GATE, 2 DRAIN, 3 SOURCE

## IPI147N12N3 G
designator Q?
N-Channel OptiMOS 3 Power-Transistor, 120 V VDS, 56 A ID, -55 to 175 degC, PG-TO262-3-1, Tube, Green; Manufacturer: Infineon; PartNumber: IPI147N12N3 G; Green: TRUE; ID (max): 56 A; IDpuls (max): 224 A; Polarity: N; Ptot (max): 107 W; QG: 37 nC; RDS (on) (max): 14.7 mOhm; Rth: 1.4 K/W; RthJA (max): 62 K/W; VDS (max): 120 V; VGS(th) (max): 4 V; VGS(th) (min): 2 V; DatasheetVersion: Rev. 2.6; PackageVersion: Rev. 03, 05/2006; PackageReference: PG-TO262-3-1; PackageDescription: 3-Pin Plastic (Green) Transistor Single Outline Package, 10.03 x 8.98 mm Body, 2.54 mm Pitch; Supplier 1: Mouser; Supplier Part Number 1: 726-IPI147N12N3G; Supplier 2: Digi-Key; Supplier Part Number 2: IPI147N12N3 G-ND; Halogen-free: TRUE; Packing: Tube; RthJC (max): 1.4 K/W; Mounting Technology: Through Hole; ComponentLink1Description: Manufacturer URL; ComponentLink1URL: http://www.infineon.com/; ComponentLink2Description: Datasheet; ComponentLink2URL: http://www.infineon.com/dgdl/IPP_I_B147N12N3+G_Rev2.6.pdf?folderId=db3a304313b8b5a60113cee8763b02d7&fileId=db3a30432239cccd0122a79a30f57d01; ComponentLink3Description: Package Specification; ComponentLink3URL: http://www.infineon.com/dgdl/DS_IPX65R420CFD_2_4.pdf?folderId=db3a3043156fd5730115c736bcc70ff2&fileId=db3a30432f91014f012f9c293f1a7399
footprint INF-PG-TO262-3-1_A (FM, 3-Leads, Body 10.03x4.436mm, Pitch 2.54mm)
pins: 1 GATE, 2 DRAIN, 3 SOURCE

## IPI180N10N3 G
designator Q?
N-Channel OptiMOS 3 Power-Transistor, 100 V VDS, 43 A ID, -55 to 175 degC, PG-TO262-3-1, Tube, Green; Manufacturer: Infineon; PartNumber: IPI180N10N3 G; Green: TRUE; ID (max): 43 A; IDpuls (max): 172 A; Polarity: N; Ptot (max): 71 W; QG: 19 nC; RDS (on) (max): 18 mOhm; Rth: 2.1 K/W; RthJA (max): 62 K/W; VDS (max): 100 V; VGS(th) (max): 3.5 V; VGS(th) (min): 2 V; DatasheetVersion: Rev. 2.2; PackageVersion: Rev. 03, 05/2006; PackageReference: PG-TO262-3-1; PackageDescription: 3-Pin Plastic (Green) Transistor Single Outline Package, 10.03 x 8.98 mm Body, 2.54 mm Pitch; Supplier 1: Mouser; Supplier Part Number 1: 726-IPI180N10N3G; Supplier 2: Digi-Key; Supplier Part Number 2: IPI180N10N3 G-ND; Halogen-free: TRUE; Packing: Tube; RthJC (max): 2.1 K/W; Mounting Technology: Through Hole; ComponentLink1Description: Manufacturer URL; ComponentLink1URL: http://www.infineon.com/; ComponentLink2Description: Datasheet; ComponentLink2URL: http://www.infineon.com/dgdl/IPP180N10N3+G+Rev2.2.pdf?folderId=db3a304313b8b5a60113cee8763b02d7&fileId=db3a30432239cccd01226066faa07f9d; ComponentLink3Description: Package Specification; ComponentLink3URL: http://www.infineon.com/dgdl/DS_IPX65R420CFD_2_4.pdf?folderId=db3a3043156fd5730115c736bcc70ff2&fileId=db3a30432f91014f012f9c293f1a7399
footprint INF-PG-TO262-3-1_A (FM, 3-Leads, Body 10.03x4.436mm, Pitch 2.54mm)
pins: 1 GATE, 2 DRAIN, 3 SOURCE

## IPI200N15N3 G
designator Q?
N-Channel OptiMOS 3 Power-Transistor, 150 V VDS, 50 A ID, -55 to 175 degC, PG-TO262-3-1, Tube, Green; Manufacturer: Infineon; PartNumber: IPI200N15N3 G; Green: TRUE; ID (max): 50 A; IDpuls (max): 200 A; Polarity: N; Ptot (max): 150 W; QG: 23 nC; RDS (on) (max): 20 mOhm; Rth: 1 K/W; RthJA (max): 75 K/W; VDS (max): 150 V; VGS(th) (max): 4 V; VGS(th) (min): 2 V; DatasheetVersion: Rev. 2.05; PackageVersion: Rev. 03, 05/2006; PackageReference: PG-TO262-3-1; PackageDescription: 3-Pin Plastic (Green) Transistor Single Outline Package, 10.03 x 8.98 mm Body, 2.54 mm Pitch; Supplier 1: Mouser; Supplier Part Number 1: 726-IPI200N15N3G; Supplier 2: Newark; Supplier Part Number 2: 60R2721; Supplier 3: Farnell; Supplier Part Number 3: 1775606; Supplier 4: Digi-Key; Supplier Part Number 4: IPI200N15N3 G-ND; Halogen-free: TRUE; Packing: Tube; RthJC (max): 1 K/W; Mounting Technology: Through Hole; ComponentLink1Description: Manufacturer URL; ComponentLink1URL: http://www.infineon.com/; ComponentLink2Description: Datasheet; ComponentLink2URL: http://www.infineon.com/dgdl/IPD200N15N3_Rev25.pdf?folderId=db3a304313b8b5a60113cee8763b02d7&fileId=db3a30432313ff5e01239a0457643bbc; ComponentLink3Description: Package Specification; ComponentLink3URL: http://www.infineon.com/dgdl/DS_IPX65R420CFD_2_4.pdf?folderId=db3a3043156fd5730115c736bcc70ff2&fileId=db3a30432f91014f012f9c293f1a7399
footprint INF-PG-TO262-3-1_A (FM, 3-Leads, Body 10.03x4.436mm, Pitch 2.54mm)
pins: 1 GATE, 2 DRAIN, 3 SOURCE

## IPI200N25N3 G
designator Q?
N-Channel OptiMOS 3 Power-Transistor, 250 V VDS, 64 A ID, -55 to 175 degC, PG-TO262-3-1, Tube, Green; Manufacturer: Infineon; PartNumber: IPI200N25N3 G; Green: TRUE; ID (max): 64 A; IDpuls (max): 256 A; Polarity: N; Ptot (max): 300 W; QG: 64 nC; RDS (on) (max): 20 mOhm; Rth: 0.5 K/W; RthJA (max): 62 K/W; VDS (max): 250 V; VGS(th) (max): 4 V; VGS(th) (min): 2 V; DatasheetVersion: Rev. 2.4; PackageVersion: Rev. 03, 05/2006; PackageReference: PG-TO262-3-1; PackageDescription: 3-Pin Plastic (Green) Transistor Single Outline Package, 10.03 x 8.98 mm Body, 2.54 mm Pitch; Supplier 1: Mouser; Supplier Part Number 1: 726-IPI200N25N3G; Supplier 2: Digi-Key; Supplier Part Number 2: IPI200N25N3 G-ND; Halogen-free: TRUE; Packing: Tube; RthJC (max): 0.5 K/W; Mounting Technology: Through Hole; ComponentLink1Description: Manufacturer URL; ComponentLink1URL: http://www.infineon.com/; ComponentLink2Description: Datasheet; ComponentLink2URL: http://www.infineon.com/dgdl/IPP_B_I_200N25N3+G+Rev2.4.pdf?folderId=db3a3043163797a6011637d4bae7003b&fileId=db3a3043243b5f17012496b87e9f1971; ComponentLink3Description: Package Specification; ComponentLink3URL: http://www.infineon.com/dgdl/DS_IPX65R420CFD_2_4.pdf?folderId=db3a3043156fd5730115c736bcc70ff2&fileId=db3a30432f91014f012f9c293f1a7399
footprint INF-PG-TO262-3-1_A (FM, 3-Leads, Body 10.03x4.436mm, Pitch 2.54mm)
pins: 1 GATE, 2 DRAIN, 3 SOURCE

## IPI320N20N3 G
designator Q?
N-Channel OptiMOS 3 Power-Transistor, 200 V VDS, 34 A ID, -55 to 175 degC, PG-TO262-3-1, Tube, Green; Manufacturer: Infineon; PartNumber: IPI320N20N3 G; Green: TRUE; ID (max): 34 A; IDpuls (max): 136 A; Polarity: N; Ptot (max): 136 W; QG: 22 nC; RDS (on) (max): 32 mOhm; Rth: 1.1 K/W; RthJA (max): 62 K/W; VDS (max): 200 V; VGS(th) (max): 4 V; VGS(th) (min): 2 V; DatasheetVersion: Rev. 2.3; PackageVersion: Rev. 03, 05/2006; PackageReference: PG-TO262-3-1; PackageDescription: 3-Pin Plastic (Green) Transistor Single Outline Package, 10.03 x 8.98 mm Body, 2.54 mm Pitch; Supplier 1: Mouser; Supplier Part Number 1: 726-IPI320N20N3G; Supplier 2: Digi-Key; Supplier Part Number 2: IPI320N20N3 G-ND; Halogen-free: TRUE; Packing: Tube; RthJC (max): 1.1 K/W; Mounting Technology: Through Hole; ComponentLink1Description: Manufacturer URL; ComponentLink1URL: http://www.infineon.com/; ComponentLink2Description: Datasheet; ComponentLink2URL: http://www.infineon.com/dgdl/IPP_B_I_320N20N3+G+Rev2.3.pdf?folderId=db3a3043163797a6011637d4bae7003b&fileId=db3a3043243b5f170124967064ba184a; ComponentLink3Description: Package Specification; ComponentLink3URL: http://www.infineon.com/dgdl/DS_IPX65R420CFD_2_4.pdf?folderId=db3a3043156fd5730115c736bcc70ff2&fileId=db3a30432f91014f012f9c293f1a7399
footprint INF-PG-TO262-3-1_A (FM, 3-Leads, Body 10.03x4.436mm, Pitch 2.54mm)
pins: 1 GATE, 2 DRAIN, 3 SOURCE

## IPI530N15N3 G
designator Q?
N-Channel OptiMOS 3 Power-Transistor, 150 V VDS, 21 A ID, -55 to 175 degC, PG-TO262-3-1, Tube, Green; Manufacturer: Infineon; PartNumber: IPI530N15N3 G; Green: TRUE; ID (max): 21 A; IDpuls (max): 84 A; Polarity: N; Ptot (max): 68 W; QG: 8.7 nC; RDS (on) (max): 53 mOhm; Rth: 2.2 K/W; RthJA (max): 62 K/W; VDS (max): 150 V; VGS(th) (max): 4 V; VGS(th) (min): 2 V; DatasheetVersion: Rev. 2.5; PackageVersion: Rev. 03, 05/2006; PackageReference: PG-TO262-3-1; PackageDescription: 3-Pin Plastic (Green) Transistor Single Outline Package, 10.03 x 8.98 mm Body, 2.54 mm Pitch; Supplier 1: Digi-Key; Supplier Part Number 1: IPI530N15N3 G-ND; Halogen-free: TRUE; Packing: Tube; RthJC (max): 2.2 K/W; Mounting Technology: Through Hole; ComponentLink1Description: Manufacturer URL; ComponentLink1URL: http://www.infineon.com/; ComponentLink2Description: Datasheet; ComponentLink2URL: http://www.infineon.com/dgdl/IPD530N15N3_Rev2.5.pdf?folderId=db3a304326623792012669f6bee2224b&fileId=db3a30432662379201266a1f6dd2227c; ComponentLink3Description: Package Specification; ComponentLink3URL: http://www.infineon.com/dgdl/DS_IPX65R420CFD_2_4.pdf?folderId=db3a3043156fd5730115c736bcc70ff2&fileId=db3a30432f91014f012f9c293f1a7399
footprint INF-PG-TO262-3-1_A (FM, 3-Leads, Body 10.03x4.436mm, Pitch 2.54mm)
pins: 1 GATE, 2 DRAIN, 3 SOURCE

## IPI600N25N3 G
designator Q?
N-Channel OptiMOS 3 Power-Transistor, 250 V VDS, 25 A ID, -55 to 175 degC, PG-TO262-3-1, Tube, Green; Manufacturer: Infineon; PartNumber: IPI600N25N3 G; Green: TRUE; ID (max): 25 A; IDpuls (max): 100 A; Polarity: N; Ptot (max): 136 W; QG: 22 nC; RDS (on) (max): 60 mOhm; Rth: 1.1 K/W; RthJA (max): 62 K/W; VDS (max): 250 V; VGS(th) (max): 4 V; VGS(th) (min): 2 V; DatasheetVersion: Rev. 2.3; PackageVersion: Rev. 03, 05/2006; PackageReference: PG-TO262-3-1; PackageDescription: 3-Pin Plastic (Green) Transistor Single Outline Package, 10.03 x 8.98 mm Body, 2.54 mm Pitch; Supplier 1: Mouser; Supplier Part Number 1: 726-IPI600N25N3G; Supplier 2: Digi-Key; Supplier Part Number 2: IPI600N25N3 G-ND; Halogen-free: TRUE; Packing: Tube; RthJC (max): 1.1 K/W; Mounting Technology: Through Hole; ComponentLink1Description: Manufacturer URL; ComponentLink1URL: http://www.infineon.com/; ComponentLink2Description: Datasheet; ComponentLink2URL: http://www.infineon.com/dgdl/IPP_B_600N25N3+G+Rev2.3.pdf?folderId=db3a3043163797a6011637d4bae7003b&fileId=db3a3043243b5f17012496c9548d199c; ComponentLink3Description: Package Specification; ComponentLink3URL: http://www.infineon.com/dgdl/DS_IPX65R420CFD_2_4.pdf?folderId=db3a3043156fd5730115c736bcc70ff2&fileId=db3a30432f91014f012f9c293f1a7399
footprint INF-PG-TO262-3-1_A (FM, 3-Leads, Body 10.03x4.436mm, Pitch 2.54mm)
pins: 1 GATE, 2 DRAIN, 3 SOURCE

## IPL60R199CP
designator Q?
N-Channel CoolMOS CP Power-Transistor, 600 V VDS, 16.4 A ID, -40 to 150 degC, PG-VSON-4, Reel, Green; Manufacturer: Infineon; PartNumber: IPL60R199CP; Green: TRUE; ID (max): 16.4 A; IDpuls (max): 51 A; Polarity: N; Ptot (max): 139 W; QG: 32 nC; RDS (on) (max): 199 mOhm; Rth: 0.9 K/W; RthJA (max): 45 K/W; VDS (max): 600 V; VGS(th) (max): 3.5 V; VGS(th) (min): 2.5 V; DatasheetVersion: Rev. 2.2; PackageVersion: Rev. 01, 04/2010; PackageReference: PG-VSON-4; PackageDescription: 4-Pin Plastic (Green) Small Outline Non-Leaded Package, 8 x 8 mm Body, 2 mm Pitch; Supplier 1: Mouser; Supplier Part Number 1: 726-IPL60R199CP; Supplier 2: Digi-Key; Supplier Part Number 2: IPL60R199CPTR-ND; Supplier 3: Digi-Key; Supplier Part Number 3: IPL60R199CPCT-ND; Supplier 4: Digi-Key; Supplier Part Number 4: IPL60R199CPDKR-ND; Halogen-free: TRUE; Packing: Reel; RthJC (max): 0.9 K/W; Technology: CoolMOS CP; Mounting Technology: Surface Mount; ComponentLink1Description: Manufacturer URL; ComponentLink1URL: http://www.infineon.com/; ComponentLink2Description: Datasheet; ComponentLink2URL: http://www.infineon.com/dgdl/IPL60R199CP_2_2.pdf?folderId=db3a3043163797a6011637d4bae7003b&fileId=db3a3043284aacd801284dca135b29ba; ComponentLink3Description: Package Specification; ComponentLink3URL: http://www.infineon.com/dgdl/IPL60R199CP_2_2.pdf?folderId=db3a3043163797a6011637d4bae7003b&fileId=db3a3043284aacd801284dca135b29ba
footprint INF-PG-VSON-4_A_V (VSON, 4-Leads, Body 8x8mm, Pitch 2mm, Thermal Pad 7.2x4.75mm)
pins: 1 GATE, 2 DRIVER SOURCE, 3 POWER SOURCE, 4 POWER SOURCE, 5 DRAIN

## IPL60R299CP
designator Q?
N-Channel CoolMOS CP Power-Transistor, 600 V VDS, 11.1 A ID, -40 to 150 degC, PG-VSON-4, Reel, Green; Manufacturer: Infineon; PartNumber: IPL60R299CP; Green: TRUE; ID (max): 11.1 A; IDpuls (max): 34 A; Polarity: N; Ptot (max): 96 W; QG: 22 nC; RDS (on) (max): 299 mOhm; Rth: 1.3 K/W; RthJA (max): 45 K/W; VDS (max): 600 V; VGS(th) (max): 3.5 V; VGS(th) (min): 2.5 V; DatasheetVersion: Rev. 2.1; PackageVersion: Rev. 01, 04/2010; PackageReference: PG-VSON-4; PackageDescription: 4-Pin Plastic (Green) Small Outline Non-Leaded Package, 8 x 8 mm Body, 2 mm Pitch; Supplier 1: Mouser; Supplier Part Number 1: 726-IPL60R299CP; Supplier 2: Digi-Key; Supplier Part Number 2: IPL60R299CPTR-ND; Supplier 3: Digi-Key; Supplier Part Number 3: IPL60R299CPCT-ND; Supplier 4: Digi-Key; Supplier Part Number 4: IPL60R299CPDKR-ND; Halogen-free: TRUE; Packing: Reel; RthJC (max): 1.3 K/W; Technology: CoolMOS CP; Mounting Technology: Surface Mount; ComponentLink1Description: Manufacturer URL; ComponentLink1URL: http://www.infineon.com/; ComponentLink2Description: Datasheet; ComponentLink2URL: http://www.infineon.com/dgdl/IPL60R299CP_2_1.pdf?folderId=db3a3043163797a6011637d4bae7003b&fileId=db3a3043284aacd801285d1c1c8e27f4; ComponentLink3Description: Package Specification; ComponentLink3URL: http://www.infineon.com/dgdl/IPL60R199CP_2_2.pdf?folderId=db3a3043163797a6011637d4bae7003b&fileId=db3a3043284aacd801284dca135b29ba
footprint INF-PG-VSON-4_A_V (VSON, 4-Leads, Body 8x8mm, Pitch 2mm, Thermal Pad 7.2x4.75mm)
pins: 1 GATE, 2 DRIVER SOURCE, 3 POWER SOURCE, 4 POWER SOURCE, 5 DRAIN